# EAGLE library part ST1480AC (library st-microelectronics)
1/1 Transceiver Half RS422, RS485
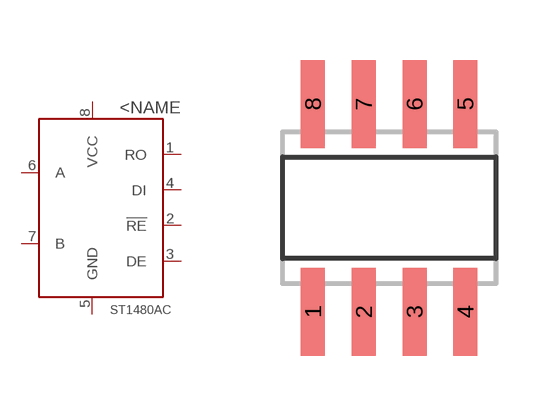
[diagram p41: symbol with the pads of SO08; footprint SO08]

Designator prefix U

## ST1480AC (DIGIKEY: 497-3726-1-ND; MFR: ST Microelectronics; MPN: ST1480ACDR; P1I: o)  [SO08]
1  RO
2  !RE
3  DE
4  DI
5  GND
6  A
7  B
8  VCC

## Footprint SO08 (pad centres in mm)
SMALL OUTLINE INTEGRATED CIRCUIT body 3.9 mm/JEDEC MS-012AA
smd 0.6 x 2.2: 1 -1.905,-2.6; 2 -0.635,-2.6; 3 0.635,-2.6; 4 1.905,-2.6; 5 1.905,2.6; 6 0.635,2.6; 7 -0.635,2.6; 8 -1.905,2.6